# Altium footprint library MyLib.PcbLib: 38 footprints (part 2 of 3)
Each footprint in its own frame and in the unit in brackets; x right, y up, seen from the top. Pads: shape width x height; smd on the part's side, far side on the other; paste and mask are expansions set on the pad; w line width, h text height; cw(c..) or ccw(c..) is an arc to the next point about the centre after c.
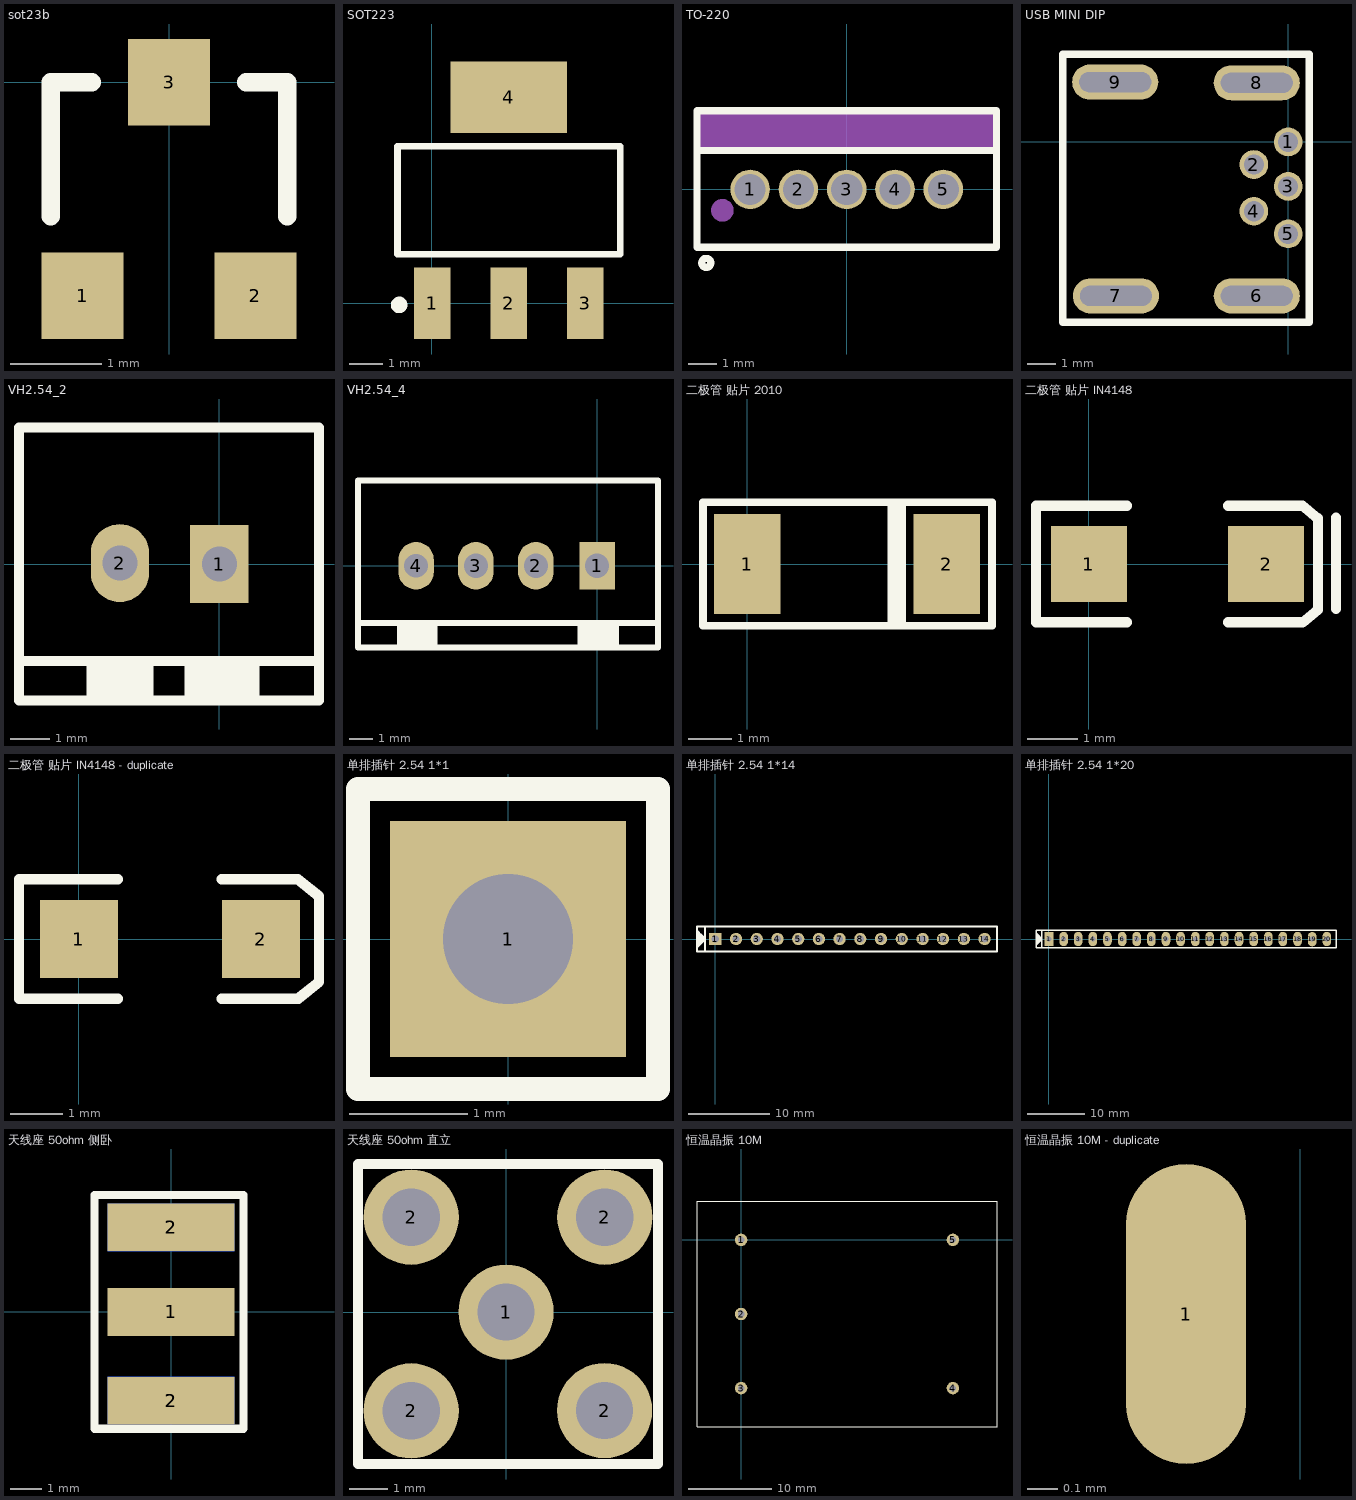
[diagram p1: the footprints below, top view; thin cyan lines are the x and y axes]

## sot23b [mm]
pads (3):
  rect 0.9x0.95 smd: 1(-0.95,-2.35) 2(0.95,-2.35) 3(0,0)
Top Overlay:
  lines w0.2: -1.3,-1.475 -1.3,0 -0.85,0 ; 0.85,0 1.3,0 1.3,-1.475

## SOT223 [mm] "SOT-223/SC-73; 4 Leads; Body 6.7 x 7.3 mm, inc. leads (LxW max)"
height 1.8
pads (4):
  rect 1.1x2.15 smd: 1(0.011,-0.001) 2(2.311,-0.001) 3(4.611,-0.001)
  rect 3.5x2.15 smd: 4(2.311,6.199)
Top Overlay:
  circle w0.25: c-0.989,-0.051 r0.125
  lines w0.2: -1.039,1.474 5.661,1.474 5.661,4.724 -1.039,4.724 -1.039,1.474

## TO-220 [mm]
pads (5):
  round 1.4 hole 1.1 paste+0 mask+0.051: 1(-3.42,0) 2(-1.71,0) 3(0,0) 4(1.71,0) 5(3.42,0)
Top Overlay:
  circle w0.254: c-4.97,-2.6 r0.16
  lines w0.258: -5.3,1.38 5.3,1.38 ; -5.3,-2.05 5.3,-2.05 5.3,2.78 -5.3,2.78 -5.3,-2.05
Mechanical 15:
  circle w0.4: c-4.4,-0.74 r0.2
  region: -5.24,2.79 5.3,2.79 5.31,2.78 5.31,1.43 5.32,1.42 -5.24,1.42 -5.25,1.41

## USB MINI DIP [mm]
pads (9):
  round 1 hole 0.7: 1(0,0) 2(-1.194,-0.787) 3(0,-1.549) 4(-1.194,-2.413) 5(0,-3.2)
  oval 3x1.22 hole 0.7 slot 2.5 at 0 deg: 6(-1.093,-5.36) 7(-5.995,-5.36) 8(-1.093,2.057) 9(-6.02,2.082)
Top Overlay:
  lines w0.254: -7.849,-6.274 0.737,-6.274 0.737,3.048 -7.849,3.048 -7.849,-6.274

## VH2.54_2 [mm]
height 1.75
pads (2):
  rect 1.5x2 hole 0.9: 1(0,0)
  oval 1.5x2 hole 0.9: 2(-2.55,0.025)
Top Overlay:
  lines w0.254: -5.141,-2.489 -2.525,-2.489 0.219,-2.489 2.454,-2.489 ; -5.141,-1.88 -5.141,3.505 2.555,3.505 2.555,-3.505 -5.141,-3.505 -5.141,-0.864 ; -3.287,-3.505 -3.287,-2.489 ; -3.109,-2.489 -3.109,-3.48 -3.083,-3.505 ; -2.906,-2.489 -2.906,-3.48 -2.88,-3.505 ; -2.728,-2.489 -2.728,-3.404 -2.626,-3.505 ; -2.55,-2.489 -2.55,-3.454 -2.499,-3.505 ; -2.321,-3.505 -2.321,-2.489 ; -2.093,-2.489 -2.093,-3.48 -2.067,-3.505 ; -1.966,-3.505 -1.94,-3.48 -1.94,-2.489 ; -1.864,-3.505 -1.813,-3.454 -1.813,-2.489 ; -0.772,-3.505 -0.772,-2.489 ; -0.594,-2.489 -0.594,-3.48 -0.569,-3.505 ; -0.391,-3.505 -0.391,-2.489 ; -0.239,-3.505 -0.188,-3.454 -0.188,-2.489 ; -0.035,-2.489 -0.035,-3.454 0.015,-3.505 ; 0.168,-2.489 0.168,-3.454 0.219,-3.505 ; 0.371,-3.505 0.371,-2.489 ; 0.498,-3.505 0.6,-3.404 0.6,-2.489 ; 0.752,-3.505 0.752,-2.489 ; 0.879,-3.505 0.904,-3.48 0.904,-2.489

## VH2.54_4 [mm]
height 1.75
pads (4):
  rect 1.5x2 hole 1.016: 1(0,0)
  oval 1.5x2 hole 1.016: 2(-2.58,0) 3(-5.105,0)
  oval 1.5x2 hole 1: 4(-7.62,0)
Top Overlay:
  lines w0.254: -10.064,-3.429 -10.064,3.581 2.56,3.581 2.56,-3.429 -10.038,-3.429 ; -10.064,-2.413 2.56,-2.413 ; -8.286,-2.413 -8.286,-3.328 -8.184,-3.429 ; -8.083,-2.413 -8.083,-3.404 -8.057,-3.429 ; -7.879,-2.413 -7.879,-3.328 -7.778,-3.429 ; -7.676,-2.413 -7.676,-3.404 -7.651,-3.429 ; -7.473,-2.413 -7.473,-3.404 -7.448,-3.429 ; -7.244,-2.413 -7.244,-3.379 -7.194,-3.429 ; -7.016,-3.429 -7.016,-2.413 ; -6.838,-2.413 -6.838,-3.379 -6.787,-3.429 ; -0.691,-3.429 -0.691,-2.413 ; -0.513,-2.413 -0.513,-3.404 -0.488,-3.429 ; -0.31,-2.413 -0.31,-3.379 -0.259,-3.429 ; -0.082,-2.413 -0.082,-3.404 -0.056,-3.429 ; 0.147,-2.413 0.147,-3.353 0.223,-3.429 ; 0.376,-2.413 0.376,-3.404 0.401,-3.429 ; 0.553,-2.413 0.553,-3.353 0.63,-3.429 ; 0.782,-3.404 0.782,-2.413

## 二极管 贴片 2010 [mil]
height 68.9
pads (2):
  rect 60x91 smd: 1(0,0) 2(181,0)
Top Overlay:
  region: 144,55 127,55 127,-56 144,-56
  lines w7: -40,-56 -40,56 222,56 222,-56 -40,-56

## 二极管 贴片 IN4148 [mm] "SMT LED; 2 Flat Leads"
height 1.2
pads (2):
  rect 1.5x1.5 smd: 1(0,0) 2(3.5,0)
Top Overlay:
  lines w0.2: 0.75,-1.15 -1.041,-1.15 -1.041,1.15 0.75,1.15 ; 2.75,-1.15 4.218,-1.15 4.521,-0.907 4.521,0.902 4.211,1.15 2.75,1.15 ; 4.877,-0.889 4.877,0.92

## 二极管 贴片 IN4148 - duplicate [mm] "SMT LED; 2 Flat Leads"
height 1.2
pads (2):
  rect 1.5x1.5 smd: 1(0,0) 2(3.5,0)
Top Overlay:
  lines w0.2: 0.75,-1.15 -1.15,-1.15 -1.15,1.15 0.75,1.15 ; 2.75,-1.15 4.218,-1.15 4.62,-0.828 4.62,0.823 4.211,1.15 2.75,1.15

## 单排插针 2.54 1*1 [mm] "Connector; Header; 2 Position"
height 1.75
pads (1):
  rect 2x2 hole 1.1: 1(0,0)
Top Overlay:
  lines w0.2: -1.27,-1.27 -1.27,1.27 1.27,1.27 1.27,-1.27 -1.27,-1.27

## 单排插针 2.54 1*14 [mm]
pads (14):
  rect 1.5x1.5 hole 0.889: 1(0,0)
  round 1.5 hole 0.889: 2(2.54,0) 3(5.08,0) 4(7.62,0) 5(10.16,0) 6(12.7,0) 7(15.24,0) 8(17.78,0) 9(20.32,0) 10(22.86,0) 11(25.425,0) 12(27.915,0) 13(30.48,0) 14(33.02,0)
Top Overlay:
  lines w0.178: -1.778,0.254 -1.778,0.543
  lines w0.254: -2.251,-0.981 -1.27,0 ; -2.251,1.016 -1.778,0.543 ; -2.119,0.341 -2.119,-0.087 -1.99,0.042 -1.99,0.212 ; -2.032,-0.635 -2.032,0.806 ; -1.778,-0.508 -1.778,0.552 -1.397,0.171 ; -1.688,-0.291 -1.524,-0.127 -1.349,0.048 ; -1.652,-0.336 -1.652,0.426 ; -1.652,0 -1.484,0.167 ; -1.27,-1.524 -1.27,1.524 ; -1.27,-1.524 34.544,-1.524 34.544,1.524 -1.27,1.524 ; -1.27,-1.524 -2.251,-1.524 -2.251,1.524 -1.27,1.524

## 单排插针 2.54 1*20 [mm]
pads (20):
  rect 1.5x2.5 hole 0.9: 1(0,0)
  oval 1.5x2.5 hole 0.9: 2(2.54,0)
  oval 1.5x2.5 hole 0.889: 3(5.08,0) 4(7.62,0) 5(10.16,0) 6(12.7,0) 7(15.24,0) 8(17.78,0) 9(20.32,0) 10(22.86,0) 11(25.425,0) 12(27.915,0) 13(30.48,0) 14(33.02,0) 15(35.56,0) 16(38.1,0) 17(40.64,0) 18(43.18,0) 19(45.72,-0.025) 20(48.26,0)
Top Overlay:
  lines w0.178: -1.778,0.254 -1.778,0.543
  lines w0.254: -2.251,-0.981 -1.27,0 ; -2.251,1.016 -1.778,0.543 ; -2.119,0.341 -2.119,-0.087 -1.99,0.042 -1.99,0.212 ; -2.032,-0.635 -2.032,0.806 ; -1.778,-0.508 -1.778,0.552 -1.397,0.171 ; -1.688,-0.291 -1.524,-0.127 -1.349,0.048 ; -1.652,-0.336 -1.652,0.426 ; -1.652,0 -1.484,0.167 ; -1.27,-1.524 -2.251,-1.524 -2.251,1.524 -1.27,1.524 ; -1.27,-1.524 49.86,-1.524 49.86,1.524 -1.27,1.524 ; -1.27,-1.524 -1.27,1.524

## 天线座 50ohm 侧卧 [mm]
height 1.75
pads (5):
  rect 4x1.5 smd: 1(0,0) 2(0,-2.794) 2(0,2.667)
  rect 4x1.5 smd far side: 2(0,-2.794) 2(0,2.667)
Top Overlay:
  lines w0.254: -2.413,-3.683 2.032,-3.683 2.286,-3.683 2.286,3.683 2.032,3.683 -2.413,3.683 -2.413,-3.683

## 天线座 50ohm 直立 [mm]
height 1.75
pads (5):
  round 2.5 hole 1.5: 1(0,0) 2(-2.49,-2.59) 2(-2.49,2.49) 2(2.584,-2.584) 2(2.59,2.49)
Top Overlay:
  lines w0.254: -3.887,-3.987 3.987,-3.987 3.987,3.887 -3.887,3.887 -3.887,-3.987

## 恒温晶振 10M [mm]
pads (5):
  round 1.5 hole 0.8: 1(0,0) 2(0,-8.9) 3(0,-17.8) 4(25.4,-17.8) 5(25.4,0)
Top Overlay:
  lines w0.127: -5.3,-22.4 30.7,-22.4 30.7,4.6 -5.3,4.6 -5.3,-22.4

## 恒温晶振 10M - duplicate [mm]
pads (1):
  oval 0.4x1 all layers, no hole: 1(-0.381,1.016)